# EAGLE library part LTC3459 (library custom)
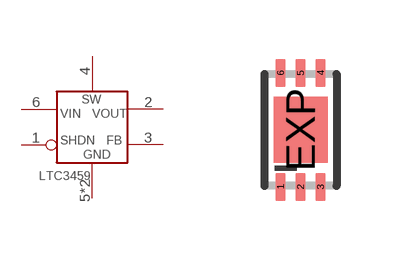
[diagram p11: symbol with the pads of DFN_2X3; footprint DFN_2X3]

Designator prefix -

## LTC3459  [DFN_2X3]
1  SHDN
2  VOUT  out
3  FB
4  SW
5  GND  pwr
6  VIN  pwr
EXP  GND  pwr

## Footprint DFN_2X3 (pad centres in mm)
smd 0.25 x 0.7: 1 -0.5,-1.425; 2 0,-1.425; 3 0.5,-1.425; 4 0.5,1.425; 5 0,1.425; 6 -0.5,1.425
smd 1.35 x 1.65: EXP 0,0